# EAGLE library part MAX4238 (library common)
The MAX4238/MAX4239 are low-noise, low-drift, ultrahigh precision amplifiers that offer near-zero DC offset and drift through the use of patented autocorrelating zeroing techniques. This method constantly measures and compensates the input offset, eliminating drift over time and temperature and the effect of 1/f noise. Both devices feature rail-to-rail outputs, operate from a single 2.7V to 5.5V supply, and consume only 600µA. An activelow shutdown mode decreases supply current to 0.1µA. The MAX4238 is unity-gain stable with a gain-bandwidth product of 1MHz, while the decompensated MAX4239 is stable with AV ≥ 10V/V and a GBWP of 6.5MHz. The MAX4238/MAX4239 are available in 8-pin narrow SO, 6-pin TDFN and SOT23 packages.
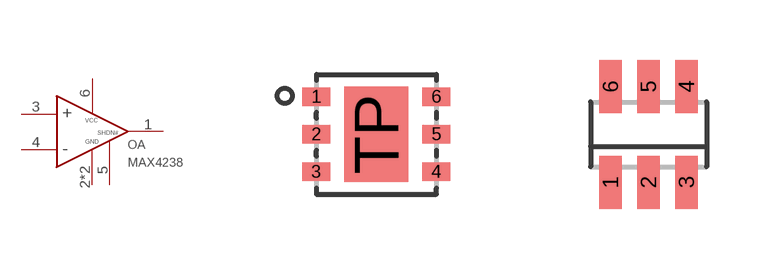
[diagram p7: symbol with the pads of TDFN-6; footprints TDFN-6, SOT23-6]

Designator prefix OA

## MAX4238TDFN-6  [TDFN-6]
1  OUT
2  GND
3  IN+
4  IN-
5  SHUTDOWN#
6  VCC
TP  GND

## MAX4238SOT23-6  [SOT23-6]
1  OUT
2  GND
3  IN+
4  IN-
5  SHUTDOWN#
6  VCC

## Footprint TDFN-6 (pad centres in mm)
smd 0.71 x 0.46: 1 -1.5,0.94; 2 -1.5,0; 3 -1.5,-0.94; 4 1.5,-0.94; 5 1.5,0; 6 1.5,0.94
smd 1.6 x 2.39: TP 0,0

## Footprint SOT23-6 (pad centres in mm)
smd 0.56 x 1.33: 1 -0.95,-1.2; 2 0,-1.2; 3 0.95,-1.2; 4 0.95,1.2; 5 0,1.2; 6 -0.95,1.2